# EAGLE library part WF-6 (library D21_v39)
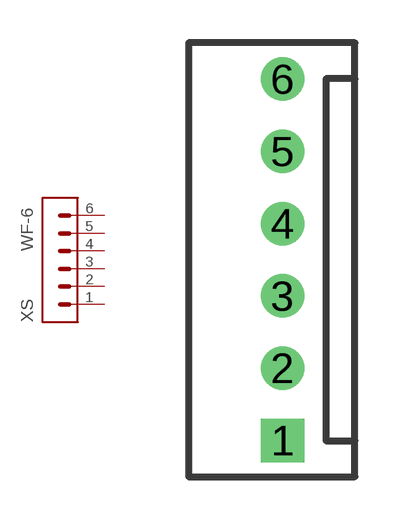
[diagram p9: symbol with the pads of WF-6; footprint WF-6]

Designator prefix XS

## WF-6  [WF-6]
1  1  pas
2  2  pas
3  3  pas
4  4  pas
5  5  pas
6  6  pas

## Footprint WF-6 (pad centres in mm)
drill 1.016 square: 1 0,-6.35
drill 1.016: 2 0,-3.81; 3 0,-1.27; 4 0,1.27; 5 0,3.81; 6 0,6.35